# EAGLE library part ULN2003A (library ULN2003A)
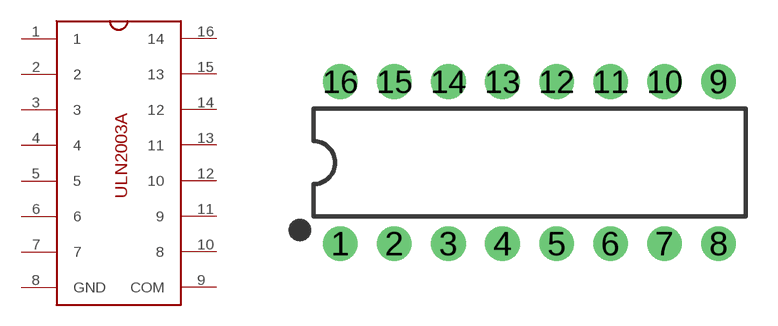
[diagram p0: symbol with the pads of DIP16-ULN2003A; footprint DIP16-ULN2003A]

Designator prefix IC

## ULN2003ACocoonshu  [DIP16-ULN2003A]
1  1  in
2  2  in
3  3  in
4  4  in
5  5  in
6  6  in
7  7  in
8  GND  out
9  COM  in
10  8  out
11  9  out
12  10  out
13  11  out
14  12  out
15  13  out
16  14  out

## Footprint DIP16-ULN2003A (pad centres in mm)
drill 0.813 pad 1.626: 1 -8.89,-3.81; 2 -6.35,-3.81; 3 -3.81,-3.81; 4 -1.27,-3.81; 5 1.27,-3.81; 6 3.81,-3.81; 7 6.35,-3.81; 8 8.89,-3.81; 9 8.89,3.81; 10 6.35,3.81; 11 3.81,3.81; 12 1.27,3.81; 13 -1.27,3.81; 14 -3.81,3.81; 15 -6.35,3.81; 16 -8.89,3.81